# EAGLE library part TPS78228DRVT (library TI_TPS)
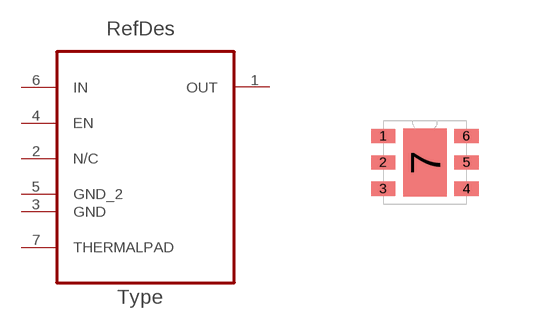
[diagram p1: symbol with the pads of SON65P210X210X80-7N; footprint SON65P210X210X80-7N]

Designator prefix U

## TPS78228DRVT (DESCRIPTION: White LED Driver With PWM Brightness Control in 2mm x 2mm QFN Package for up to 10 LEDs in Series; MPN: TPS78228DRVT; OC_FARNELL: 1690365; OC_NEWARK: 39P9366; PACKAGE: SON-6; SUPPLIER: Texas Instruments)  [SON65P210X210X80-7N]
1  OUT  out
2  N/C  nc
3  GND  pas
4  EN  in
5  GND_2  pas
6  IN  pwr
7  THERMALPAD  pas

## Footprint SON65P210X210X80-7N (pad centres in mm)
smd 0.61 x 0.356: 1 -1.041,0.66; 2 -1.041,0; 3 -1.041,-0.66; 4 1.041,-0.66; 5 1.041,0; 6 1.041,0.66
smd 1.092 x 1.702: 7 0,0